# EAGLE library part BAV70DW (library Diodes_Inc_By_element14_Batch_1)
SURFACE MOUNT SWITCHING DIODE ARRAY
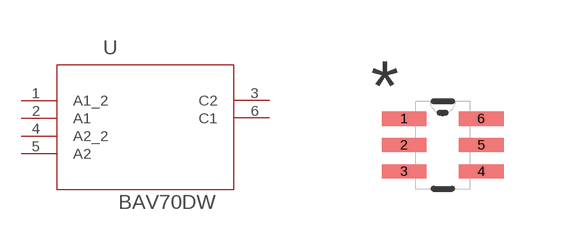
[diagram p16: symbol with the pads of SOT65P210X100-6N; footprint SOT65P210X100-6N]

Designator prefix U

## BAV70DW (MPN: BAV70DW; OC_FARNELL: 1902420; OC_NEWARK: 55T1782; PACKAGE: SOT363-6; SUPPLIER: DIODES INC.)  [SOT65P210X100-6N]
1  A1_2  pas
2  A1  pas
3  C2  pas
4  A2_2  pas
5  A2  pas
6  C1  pas

## Footprint SOT65P210X100-6N (pad centres in mm)
smd 1.118 x 0.356: 1 -0.965,0.66; 2 -0.965,0; 3 -0.965,-0.66; 4 0.965,-0.66; 5 0.965,0; 6 0.965,0.66